# Altium footprint library led.PCBLIB: 116 footprints (part 7 of 8)
Each footprint in its own frame and in the unit in brackets; x right, y up, seen from the top. Pads: shape width x height; smd on the part's side, far side on the other; paste and mask are expansions set on the pad; w line width, h text height; cw(c..) or ccw(c..) is an arc to the next point about the centre after c.
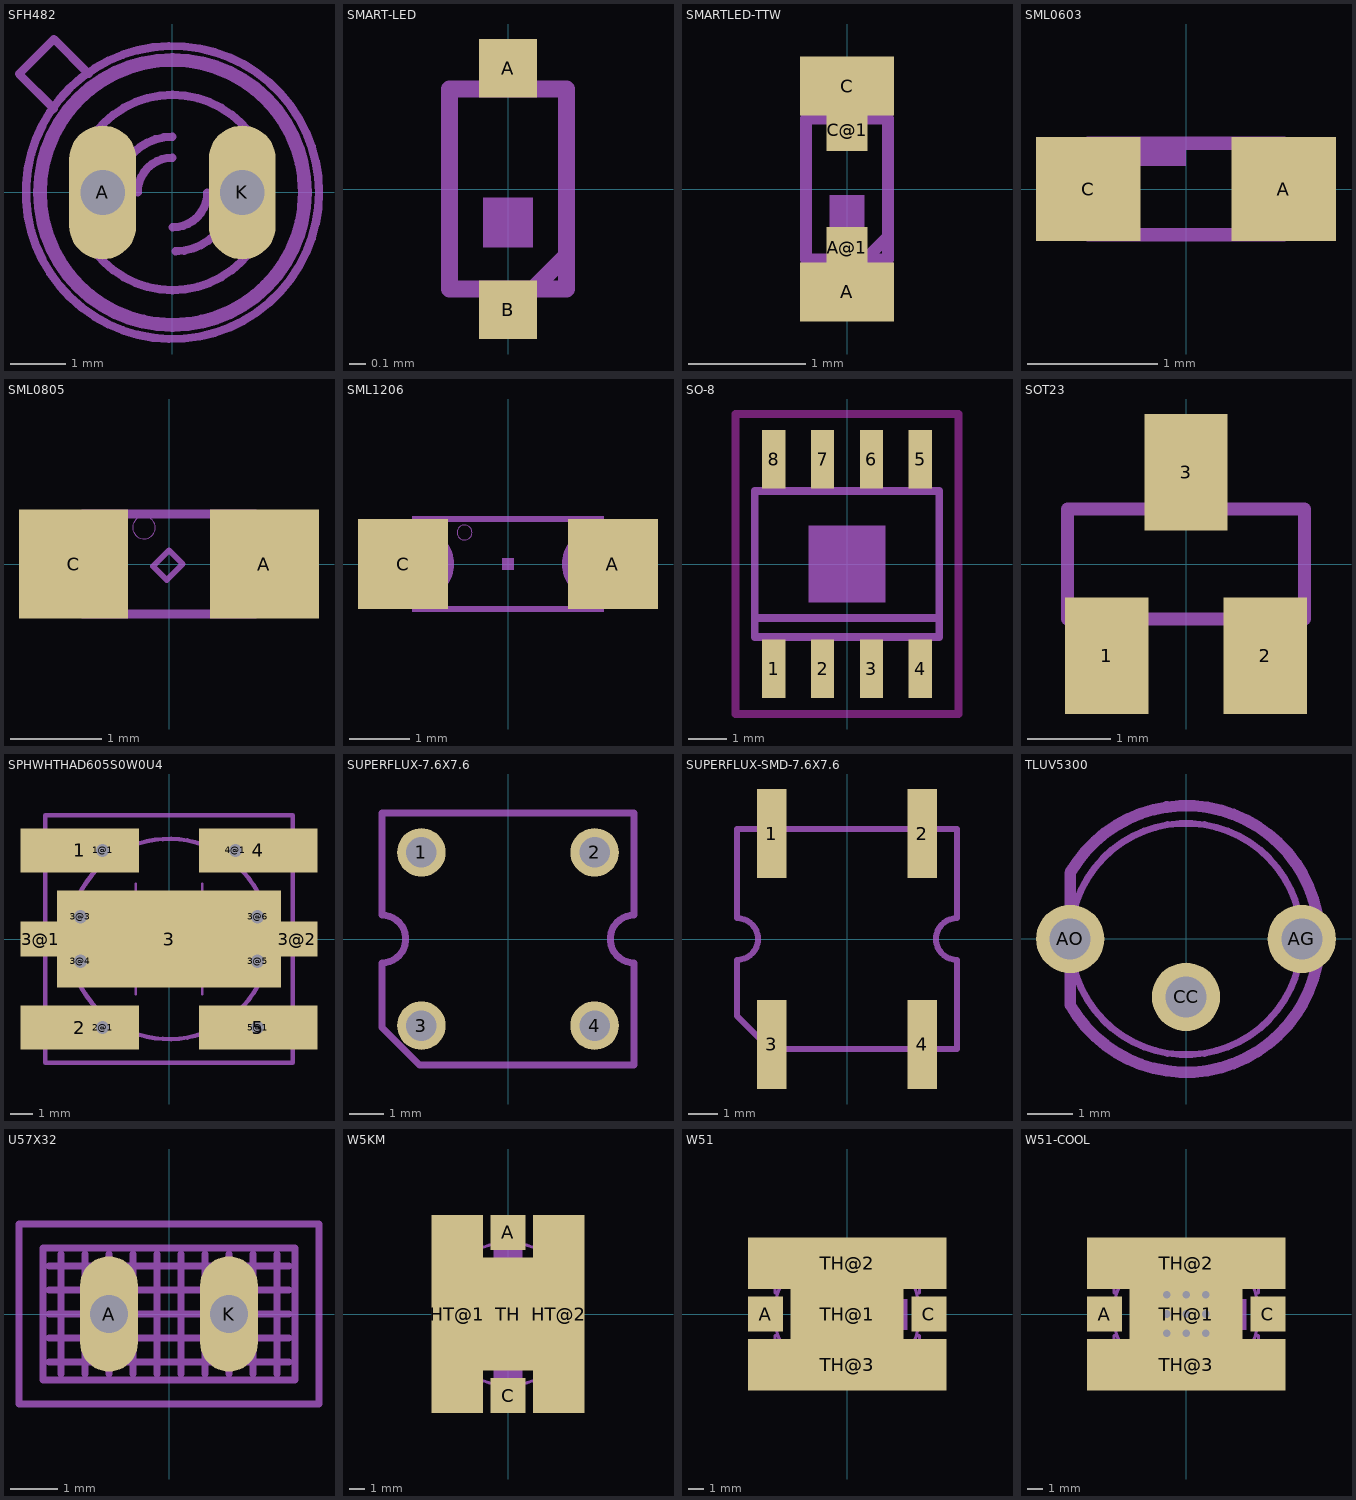
[diagram p6: the footprints below, top view; thin cyan lines are the x and y axes]

## SFH482 [mil]
pads (2):
  oval 48x96 hole 32: A(-50,0) K(50,0)
Mechanical 2:
  circle w6: c0,0 r105
  circle w10: c0,0 r95
  lines w6: -85,60 -110,85 -85,110 -60,85 ; -60.46,-35.27 ccw(c0,0) 0,-70 ccw(c0,0) 60.46,-35.27 ; -60.46,35.27 cw(c0,0) 0,70 cw(c0,0) 60.46,35.27
Mechanical 18:
  lines w6: -59.61,-36.69 cw(c0.01,0.01) -70,0 cw(c-0.01,0.01) -59.06,37.58 ; -40,0 cw(c0,0) 0,40 ; -25,0 cw(c0,0) 0,25 ; 0,-25 ccw(c0,0) 25,0 ; 2.12,-42.12 ccw(c2.12,-2.12) 42.12,-2.12 ; 59.06,-37.58 ccw(c0.01,-0.01) 70,0 ccw(c-0.01,-0.01) 59.61,36.69

## SMART-LED [mm]
pads (2):
  rect 0.35x0.35 smd: A(0,0.725) B(0,-0.725)
Mechanical 2:
  rectangle: -0.15,-0.35 0.15,-0.05
  lines w0.102: -0.35,-0.6 -0.35,0.6 ; 0.35,-0.6 0.35,0.6
Mechanical 18:
  rectangle: -0.15,0.6 0.15,0.85
  rectangle: -0.15,-0.85 0.15,-0.6
  lines w0.102: -0.35,-0.6 0.15,-0.6 ; -0.35,0.6 0.35,0.6 ; 0.35,-0.6 0.15,-0.6 ; 0.35,-0.4 0.15,-0.6

## SMARTLED-TTW [mm]
pads (4):
  rect 0.8x0.5 smd paste-0.4 mask-0.4: A(0,-0.875) C(0,0.875)
  rect 0.35x0.35 smd paste-0.175 mask-0.175: A@1(0,-0.5) C@1(0,0.5)
Top Paste:
  rectangle: -0.225,0.3 0.225,0.975
  region: 0.225,-0.3 -0.225,-0.3 -0.225,-0.975 0.225,-0.975
Top Solder:
  rectangle: -0.175,0.325 0.175,0.7
  region: 0.175,-0.325 -0.175,-0.325 -0.175,-0.7 0.175,-0.7
Mechanical 2:
  rectangle: -0.15,-0.35 0.15,-0.05
  lines w0.102: -0.35,-0.6 -0.35,0.6 ; 0.35,-0.6 0.35,0.6
Mechanical 18:
  rectangle: -0.15,0.6 0.15,0.85
  rectangle: -0.15,-0.85 0.15,-0.6
  lines w0.102: -0.35,-0.6 0.15,-0.6 ; -0.35,0.6 0.35,0.6 ; 0.35,-0.6 0.15,-0.6 ; 0.35,-0.4 0.15,-0.6

## SML0603 [mil]
pads (2):
  rect 31.5x31.5 smd: A(29.53,0) C(-29.53,0)
Mechanical 2:
  rectangle: -9.84,6.89 0,15.75
  lines w4: -7.87,-13.78 7.87,-13.78 ; -7.87,13.78 7.87,13.78
Mechanical 18:
  rectangle: -15.75,6.89 0,15.75
  lines w4: -17.72,-11.81 -17.72,11.81 ; 17.72,-11.81 17.72,11.81 ; -29.53,-13.78 29.53,-13.78 29.53,13.78 -29.53,13.78 -29.53,-13.78

## SML0805 [mil]
pads (2):
  rect 47.24x47.24 smd: A(41.34,0) C(-41.34,0)
Mechanical 2:
  circle w0: c-10.83,15.75 r4.92
  lines w2.5: -6.89,-0.98 0,5.91 5.91,0 -0.98,-6.89 -6.89,-0.98
Mechanical 18:
  lines w4: -37.4,-21.65 37.4,-21.65 37.4,21.65 -37.4,21.65 -37.4,-21.65

## SML1206 [mil]
pads (2):
  rect 59.06x59.06 smd: A(68.9,0) C(-68.9,0)
Mechanical 2:
  circle w0: c-28.54,20.67 r4.92
  rectangle: -3.94,-3.94 3.94,3.94
Mechanical 18:
  rectangle: -62.99,15.75 -45.28,31.5
  rectangle: -62.99,-31.5 -45.28,-15.75
  rectangle: -46.26,-23.62 -39.37,-10.83
  region: 62.99,-15.75 45.28,-15.75 45.28,-31.5 62.99,-31.5
  region: 62.99,31.5 45.28,31.5 45.28,15.75 62.99,15.75
  region: 46.26,23.62 39.37,23.62 39.37,10.83 46.26,10.83
  lines w4: -61.02,-29.53 61.02,-29.53 ; -61.02,29.53 61.02,29.53
  lines w8: -59.06,-19.69 ccw(c-59.06,0) -59.06,19.69 ; 59.06,-19.69 cw(c59.06,0) 59.06,19.69

## SO-8 [mil]
pads (8):
  rect 23.62x59.84 smd: 1(-75,-107.28) 2(-25,-107.28) 3(25,-107.28) 4(75,-107.28) 5(75,107.28) 6(25,107.28) 7(-25,107.28) 8(-75,107.28)
Keep-Out Layer:
  lines w7.87: -114.17,-153.54 114.17,-153.54 114.17,153.54 -114.17,153.54 -114.17,-153.54
Mechanical 2:
  lines w8: -94.49,-74.8 -94.49,-55.12 ; -94.49,74.8 -94.49,-55.12 ; 94.49,-74.8 94.49,-55.12 ; 94.49,74.8 94.49,-55.12 ; -94.49,-55.12 94.49,-55.12
Mechanical 8:
  rectangle: -39.37,-39.37 39.37,39.37
Mechanical 18:
  rectangle: -84.65,-122.05 -65.35,-78.74
  rectangle: -34.65,-122.05 -15.35,-78.74
  rectangle: 15.35,-122.05 34.65,-78.74
  rectangle: 65.35,-122.05 84.65,-78.74
  rectangle: 65.35,78.74 84.65,122.05
  rectangle: 15.35,78.74 34.65,122.05
  rectangle: -34.65,78.74 -15.35,122.05
  rectangle: -84.65,78.74 -65.35,122.05
  lines w8: -94.49,-74.8 94.49,-74.8 ; -94.49,74.8 94.49,74.8

## SOT23 [mm]
pads (3):
  rect 1x1.4 smd: 1(-0.95,-1.1) 2(0.95,-1.1) 3(0,1.1)
Mechanical 18:
  rectangle: -0.229,0.711 0.229,1.295
  rectangle: 0.711,-1.295 1.168,-0.711
  rectangle: -1.168,-1.295 -0.711,-0.711
  lines w0.152: -1.422,-0.66 1.422,-0.66 1.422,0.66 -1.422,0.66 -1.422,-0.66

## SPHWHTHAD605S0W0U4 [mm]
pads (15):
  rect 5.35x2 smd paste-2.675 mask-2.675: 1(-4.025,4) 2(-4.025,-4) 4(4.025,4) 5(4.025,-4)
  round 1 hole 0.6: 1@1(-3,4) 2@1(-3,-4) 3@3(-4,1) 3@4(-4,-1) 3@5(4,-1) 3@6(4,1) 4@1(3,4) 5@1(4,-4)
  rect 10.1x4.4 smd paste-5.05: 3(0,0)
  rect 1.8x1.6 smd paste-0.9: 3@1(-5.8,0) 3@2(5.8,0)
Top Paste:
  rectangle: -5.55,3.425 -1.425,4.575
  rectangle: -6.625,3.075 -5.475,4.925
  region: 5.55,4.575 1.425,4.575 1.425,3.425 5.55,3.425
  region: 6.625,4.925 5.475,4.925 5.475,3.075 6.625,3.075
  rectangle: -5.55,-4.575 -1.425,-3.425
  rectangle: -6.625,-4.925 -5.475,-3.075
  region: 5.55,-3.425 1.425,-3.425 1.425,-4.575 5.55,-4.575
  region: 6.625,-3.075 5.475,-3.075 5.475,-4.925 6.625,-4.925
  rectangle: -6.575,-0.675 -4.75,0.675
  rectangle: -4.85,-2 4.875,2
  region: 6.575,0.675 4.75,0.675 4.75,-0.675 6.575,-0.675
Top Solder:
  rectangle: -5.45,3.35 -1.3,4.65
  rectangle: -6.775,2.95 -5.4,5.05
  region: 5.45,4.65 1.3,4.65 1.3,3.35 5.45,3.35
  rectangle: -5.45,-4.65 -1.3,-3.35
  region: 5.45,-3.35 1.3,-3.35 1.3,-4.65 5.45,-4.65
  rectangle: -6.775,-5.05 -5.4,-2.95
  region: 6.775,-2.95 5.4,-2.95 5.4,-5.05 6.775,-5.05
  region: 6.775,5.05 5.4,5.05 5.4,2.95 6.775,2.95
Mechanical 2:
  lines w0.203: -5.6,-5.6 5.6,-5.6 ; -5.6,5.6 5.6,5.6
Mechanical 18:
  circle w0.203: c0,0 r4.525
  rectangle: -6.2,3.075 -5.6,4.925
  rectangle: -6.2,-0.675 -5.6,0.675
  rectangle: -6.2,-4.925 -5.6,-3.075
  region: 6.2,-3.075 5.6,-3.075 5.6,-4.925 6.2,-4.925
  region: 6.2,0.675 5.6,0.675 5.6,-0.675 6.2,-0.675
  region: 6.2,4.925 5.6,4.925 5.6,3.075 6.2,3.075
  region: 0,0 0.254,0 0.254,0.254 0,0.254
  region: 0,0 0.254,0 0.254,0.254 0,0.254
  region: 0,0 0.254,0 0.254,0.254 0,0.254
  region: 0,0 0.254,0 0.254,0.254 0,0.254
  region: 0,0 0.254,0 0.254,0.254 0,0.254
  region: 0,0 0.254,0 0.254,0.254 0,0.254
  region: 0,0 0.254,0 0.254,0.254 0,0.254
  region: 0,0 0.254,0 0.254,0.254 0,0.254
  lines w0.1: -2.25,-1 -1.75,-1 ; -2.25,1.5 -1.75,1.5 ; -2,-0.5 -2,-2 -1.5,-2 ; -2,-0.275 -2,-0.25 ; -2,-0.025 -2,0 ; -2,0.225 -2,0.25 ; -2,0.5 -2,1 -2,2 -1.5,2 ; -1.5,-2.5 -1.5,-2 ; -1.5,2.5 -1.5,2 ; -1.25,-1.5 -0.75,-1.5 ; -1.25,1 -0.75,1 ; -1,-0.5 -1,-2 -1.5,-2 ; -1,-0.275 -1,-0.25 ; -1,-0.025 -1,0 ; -1,0.225 -1,0.25 ; -1,0.5 -1,1 -1,2 -1.5,2 ; 0.75,-1 1.25,-1 ; 0.75,1.5 1.25,1.5 ; 1,-0.5 1,-1 1,-2 1.5,-2 ; 1,-0.25 1,-0.225 ; 1,0 1,0.025 ; 1,0.25 1,0.275 ; 1,0.5 1,2 1.5,2 ; 1.5,-2.5 1.5,-2 ; 1.5,2.5 1.5,2 ; 1.75,-1.5 2.25,-1.5 ; 1.75,1 2.25,1 ; 2,-0.5 2,-1 2,-2 1.5,-2 ; 2,-0.25 2,-0.225 ; 2,0 2,0.025 ; 2,0.25 2,0.275 ; 2,0.5 2,2 1.5,2
  lines w0.203: -5.6,-5.6 -5.6,5.6 ; 5.6,-5.6 5.6,5.6

## SUPERFLUX-7.6X7.6 [mil]
pads (4):
  round 56 hole 35.43: 1(-100,100) 2(100,100) 3(-100,-100) 4(100,-100)
Mechanical 2:
  lines w8: -145.67,-102.36 -145.67,-27.56 ccw(c-145.67,0) -145.67,27.56 -145.67,145.67 145.67,145.67 145.67,27.56 ccw(c145.67,0) 145.67,-27.56 145.67,-145.67 -102.36,-145.67
Mechanical 18:
  lines w8: -145.67,-102.36 -102.36,-145.67

## SUPERFLUX-SMD-7.6X7.6 [mm]
pads (4):
  rect 1x3 smd: 1(-2.54,3.556) 2(2.54,3.556) 3(-2.54,-3.556) 4(2.54,-3.556)
Mechanical 2:
  lines w0.203: -3.7,-2.6 -3.7,-0.7 ccw(c-3.7,0) -3.7,0.7 -3.7,3.7 3.7,3.7 3.7,0.7 ccw(c3.7,0) 3.7,-0.7 3.7,-3.7
Mechanical 18:
  lines w0.203: -3.7,-2.6 -2.6,-3.7 3.7,-3.7

## TLUV5300 [mil]
pads (3):
  round 59.06 hole 35.43: AG(100,0) AO(-100,0) CC(0,-50)
Mechanical 2:
  lines w6: -94,-34 ccw(c0,0) 94,-34 ; -94,34 cw(c0,0) 94,34
  lines w10: -100.03,57.02 cw(c0,-0.01) 110,34 ; -100,-35 -100,-57 ccw(c0,-0.01) 109.97,-33.99 ; -100,35 -100,57
Mechanical 18:
  lines w6: -94,-34 cw(c0,0) -94,34 ; 94,-34 ccw(c0,0) 94,34
  lines w10: -100,-37 -100,35 ; 110,-34 ccw(c0,0) 110,34

## U57X32 [mil]
pads (2):
  oval 48x96 hole 32: A(-50,0) K(50,0)
Mechanical 2:
  lines w6: -125,-75 125,-75 125,75 -125,75 -125,-75 ; -105,-55 105,-55 105,55 -105,55 -105,-55
Mechanical 18:
  lines w6: -100,-40 100,-40 ; -100,-20 100,-20 ; -100,0 100,0 ; -100,20 100,20 ; -100,40 100,40 ; -90,-50 -90,50 ; -70,-50 -70,50 ; -50,-50 -50,50 ; -30,-50 -30,50 ; -10,-50 -10,50 ; 10,-50 10,50 ; 30,-50 30,50 ; 50,-50 50,50 ; 70,-50 70,50 ; 90,-50 90,50

## W5KM [mm]
pads (5):
  rect 2.3x2.3 smd: A(0,5.35) C(0,-5.35)
  rect 3.35x13 smd paste-6.5 mask-6.5: HT@1(-3.325,0) HT@2(3.325,0)
  rect 3.35x7.4 smd paste-3.7 mask-3.7: TH(0,0)
Top Paste:
  circle w0: c0,0 r1.803
Top Solder:
  circle w0: c0,0 r2
Mechanical 2:
  lines w0.203: -1.25,-4.5 cw(c0,0) -1.25,4.5 ; 1.25,-4.5 ccw(c0,0) 1.25,4.5
Mechanical 18:
  circle w0.203: c0,0 r4.675
  rectangle: -0.95,-5.6 0.95,-3.2
  region: 0.95,5.6 -0.95,5.6 -0.95,3.2 0.95,3.2

## W51 [mm]
pads (5):
  rect 2.3x2.3 smd paste-1.15 mask-1.15: A(-5.35,0) C(5.35,0)
  rect 7.4x3.4 smd paste-3.7 mask-3.7: TH@1(0,0)
  rect 13x3.35 smd paste-6.5 mask-6.5: TH@2(0,3.325) TH@3(0,-3.325)
Top Paste:
  circle w0: c0,0 r1.775
  rectangle: -6.45,-1.1 -4.25,1.1
  rectangle: 4.25,-1.1 6.45,1.1
Top Solder:
  circle w0: c0,0 r2
  rectangle: -6.725,-1.35 -4,1.375
  rectangle: 3.975,-1.375 6.7,1.35
Mechanical 2:
  circle w0.203: c0,0 r0.7
  circle w0.203: c0,0 r2.825
  rectangle: 3.632,-1.054 3.962,0.99
  lines w0.203: -4.35,2.025 -4.525,2.025 -4.725,1.65 -4.725,1.375 -4.55,1.375 cw(c0,-0.005) 4.55,1.375 4.725,1.375 4.725,1.675 4.525,2.025 4.35,2.025 ; -4.325,-2.05 -4.525,-2.05 -4.725,-1.675 -4.725,-1.4 -4.55,-1.4 ccw(c0,0.015) 4.55,-1.4 4.725,-1.4 4.725,-1.675 4.5,-2.05 4.325,-2.05 ; -1.75,-0.425 cw(c0.025,0.018) -0.975,1.55 ; -1.35,-1.225 ccw(c0.006,0.012) 0.6,-1.725 ; -0.125,1.825 cw(c-0.027,-0.012) 1.725,0.55
Mechanical 18:
  circle w0.203: c0,0 r4.75
  rectangle: -5.575,-1 -4.675,1
  region: 5.575,1 4.65,1 4.65,-1 5.575,-1

## W51-COOL [mm]
pads (14):
  rect 2.3x2.3 smd paste-1.15 mask-1.15: A(-5.35,0) C(5.35,0)
  rect 7.4x3.4 smd paste-3.7 mask-3.7: TH@1(0,0)
  rect 13x3.35 smd paste-6.5 mask-6.5: TH@2(0,3.325) TH@3(0,-3.325)
  rect 0.9x0.9 hole 0.5: TH@4(-1.27,1.27) TH@5(0,1.27) TH@6(1.27,1.27) TH@7(-1.27,0) TH@8(0,0) TH@9(1.27,0) TH@10(-1.27,-1.27) TH@11(0,-1.27) TH@12(1.27,-1.27)
Top Paste:
  circle w0: c0,0 r1.775
  rectangle: -6.45,-1.1 -4.25,1.1
  rectangle: 4.25,-1.1 6.45,1.1
Top Solder:
  circle w0: c0,0 r2.502
  rectangle: -6.725,-1.35 -4,1.375
  rectangle: 3.975,-1.375 6.7,1.35
Mechanical 2:
  circle w0.203: c0,0 r0.7
  circle w0.203: c0,0 r2.825
  rectangle: 3.632,-1.054 3.962,0.99
  lines w0.203: -4.35,2.025 -4.525,2.025 -4.725,1.65 -4.725,1.375 -4.55,1.375 cw(c0,-0.005) 4.55,1.375 4.725,1.375 4.725,1.675 4.525,2.025 4.35,2.025 ; -4.325,-2.05 -4.525,-2.05 -4.725,-1.675 -4.725,-1.4 -4.55,-1.4 ccw(c0,0.015) 4.55,-1.4 4.725,-1.4 4.725,-1.675 4.5,-2.05 4.325,-2.05 ; -1.75,-0.425 cw(c0.025,0.018) -0.975,1.55 ; -1.35,-1.225 ccw(c0.006,0.012) 0.6,-1.725 ; -0.125,1.825 cw(c-0.027,-0.012) 1.725,0.55
Mechanical 18:
  circle w0.203: c0,0 r4.75
  rectangle: -5.575,-1 -4.675,1
  region: 5.575,1 4.65,1 4.65,-1 5.575,-1